# Altium schematic symbol library SnapEDAsch.SchLib: 1 symbol
Pins are listed as number, name and electrical type; pins without a type are passive.

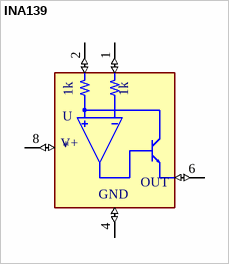
[diagram p0: symbol INA139]

## INA139
designator U
Current Monitor Regulator High-Side SOT-23-5; MF: Texas Instruments; MP: INA139; Package: SOT-23-5 Texas Instruments; Value: *; Availability: Unavailable; SnapEDA_Link: https://www.snapeda.com/parts/INA139/Texas%20Instruments/view-part/560986/?ref=snap; Price: None
footprint SOT23-5
pins: 1 VIN- (io), 2 VIN+ (io), 3 NC (hiz) hidden, 4 GND (io), 5 NC (hiz) hidden, 6 OUT (io), 7 NC (hiz) hidden, 8 V+ (io)
text: 1k